# Altium schematic symbol library PinHeaderMale.SchLib: 2 symbols
Pins are listed as number, name and electrical type; pins without a type are passive.

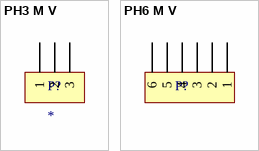
[diagram p0: symbols PH3 M V to PH6 M V]

## PH3 M V
designator P?
Pin Header Male 3 Pins
footprint MALE3PIN
pins: 1, 2, 3

## PH6 M V
designator P?
Pin Header Male 6 Pins
footprint MALE6PIN
pins: 1, 2, 3, 4, 5, 6